# Altium footprint library RC522-HVQFN32.PcbLib: 1 footprints
Each footprint in its own frame and in the unit in brackets; x right, y up, seen from the top. Pads: shape width x height; smd on the part's side, far side on the other; paste and mask are expansions set on the pad; w line width, h text height; cw(c..) or ccw(c..) is an arc to the next point about the centre after c.
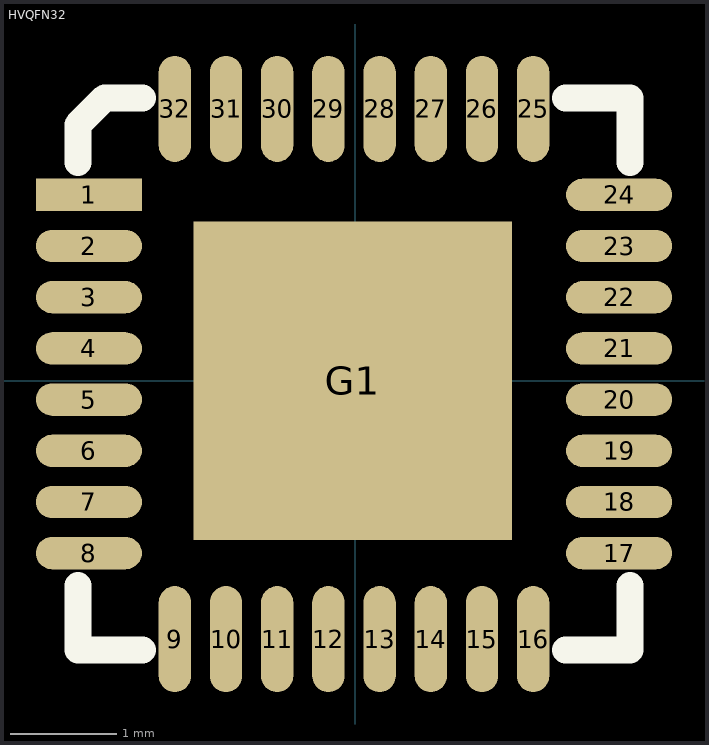
[diagram p0: the footprint, top view; thin cyan lines are the x and y axes]

## HVQFN32 [mil] "RC522"
pads (33):
  rect 39.37x12 smd: 1(-98.91,69)
  oval 39.37x12 smd: 2(-98.91,50) 3(-98.91,31) 4(-98.91,12) 5(-98.91,-7) 6(-98.91,-26) 7(-98.91,-45) 8(-98.91,-64) 17(97.91,-64) 18(97.91,-45) 19(97.91,-26) 20(97.91,-7) 21(97.91,12) 22(97.91,31) 23(97.91,50) 24(97.91,69)
  oval 12x39.37 smd: 9(-67,-95.91) 10(-48,-95.91) 11(-29,-95.91) 12(-10,-95.91) 13(9,-95.91) 14(28,-95.91) 15(47,-95.91) 16(66,-95.91) 25(66,100.91) 26(47,100.91) 27(28,100.91) 28(9,100.91) 29(-10,100.91) 30(-29,100.91) 31(-48,100.91) 32(-67,100.91)
  rect 118.11x118.11 smd: G1(-1,0)
Top Overlay:
  lines w10: -103,-76 -103,-100 -79,-100 ; -103,81 -103,95 -93,105 -79,105 ; 78,105 102,105 102,81 ; 92,-100 78,-100 102,-100 102,-76 102,-90